# Altium schematic symbol library ARDUINO_MSP430F2370.SchLib: 2 symbols
Pins are listed as number, name and electrical type; pins without a type are passive.

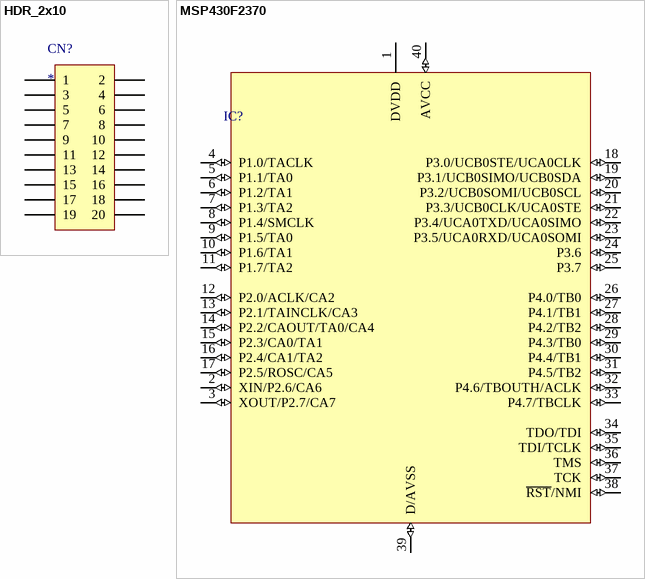
[diagram p0: symbols HDR_2x10 to MSP430F2370]

## HDR_2x10
designator CN?
pins: 1, 2, 3, 4, 5, 6, 7, 8, 9, 10, 11, 12, 13, 14, 15, 16, 17, 18, 19, 20

## MSP430F2370
designator IC?  (value not drawn)
pins: 1 DVDD (power), 2 XIN/P2.6/CA6 (io), 3 XOUT/P2.7/CA7 (io), 4 P1.0/TACLK (io), 5 P1.1/TA0 (io), 6 P1.2/TA1 (io), 7 P1.3/TA2 (io), 8 P1.4/SMCLK (io), 9 P1.5/TA0 (io), 10 P1.6/TA1 (io), 11 P1.7/TA2 (io), 12 P2.0/ACLK/CA2 (io), 13 P2.1/TAINCLK/CA3 (io), 14 P2.2/CAOUT/TA0/CA4 (io), 15 P2.3/CA0/TA1 (io), 16 P2.4/CA1/TA2 (io), 17 P2.5/ROSC/CA5 (io), 18 P3.0/UCB0STE/UCA0CLK (io), 19 P3.1/UCB0SIMO/UCB0SDA (io), 20 P3.2/UCB0SOMI/UCB0SCL (io), 21 P3.3/UCB0CLK/UCA0STE (io), 22 P3.4/UCA0TXD/UCA0SIMO (io), 23 P3.5/UCA0RXD/UCA0SOMI (io), 24 P3.6 (io), 25 P3.7 (io), 26 P4.0/TB0 (io), 27 P4.1/TB1 (io), 28 P4.2/TB2 (io), 29 P4.3/TB0 (io), 30 P4.4/TB1 (io), 31 P4.5/TB2 (io), 32 P4.6/TBOUTH/ACLK (io), 33 P4.7/TBCLK (io), 34 TDO/TDI (io), 35 TDI/TCLK (io), 36 TMS (io), 37 TCK (io), 38 ~{RST}/NMI (io), 39 D/AVSS (io), 40 AVCC (io)